# EAGLE library part M13X2 (library work)
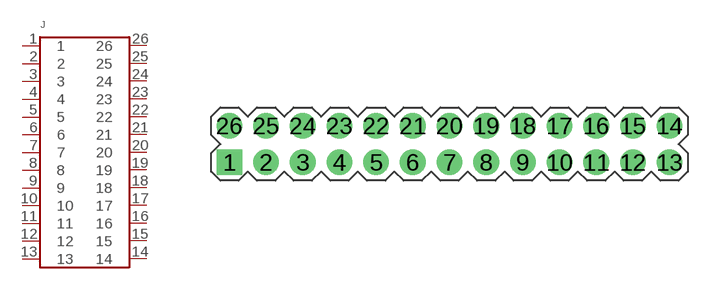
[diagram p29: symbol with the pads of M13X2; footprint M13X2]

Designator prefix J

## M13X2  [M13X2]
1  1
2  2
3  3
4  4
5  5
6  6
7  7
8  8
9  9
10  10
11  11
12  12
13  13
14  14
15  15
16  16
17  17
18  18
19  19
20  20
21  21
22  22
23  23
24  24
25  25
26  26

## Footprint M13X2 (pad centres in mm)
drill 1.016 pad 1.778 square: 1 -15.24,-1.27
drill 1.016 pad 1.778: 2 -12.7,-1.27; 3 -10.16,-1.27; 4 -7.62,-1.27; 5 -5.08,-1.27; 6 -2.54,-1.27; 7 0,-1.27; 8 2.54,-1.27; 9 5.08,-1.27; 10 7.62,-1.27; 11 10.16,-1.27; 12 12.7,-1.27; 13 15.24,-1.27; 14 15.24,1.27; 15 12.7,1.27; 16 10.16,1.27; 17 7.62,1.27; 18 5.08,1.27; 19 2.54,1.27; 20 0,1.27; 21 -2.54,1.27; 22 -5.08,1.27; 23 -7.62,1.27; 24 -10.16,1.27; 25 -12.7,1.27; 26 -15.24,1.27